# Altium integrated library AISkyLab-MaxII-EPM240_570.IntLib: 1 symbol
Pins are listed as number, name and electrical type; pins without a type are passive.

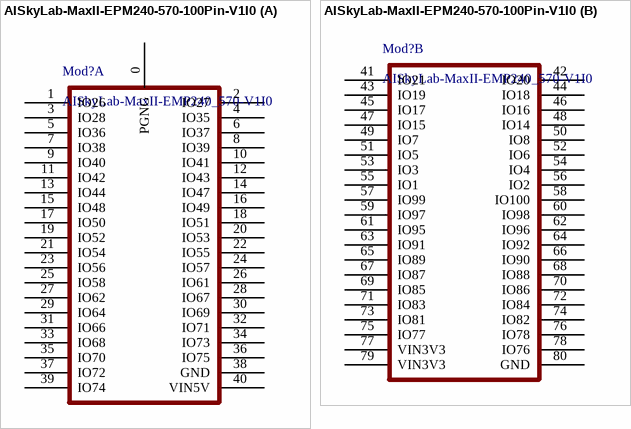
[diagram p0: symbol AISkyLab-MaxII-EPM240-570-100Pin-V1I0]

## AISkyLab-MaxII-EPM240-570-100Pin-V1I0
designator Mod?, comment AISkyLab-MaxII-EMP240_570-V1I0
AISkyLab MaxII 核心板
footprint EPM240_570_Mini_V1I0 (EPM240_570核心板模块)
part A pins: 0 PGNG, 1 IO26, 2 IO27, 3 IO28, 4 IO35, 5 IO36, 6 IO37, 7 IO38, 8 IO39, 9 IO40, 10 IO41, 11 IO42, 12 IO43, 13 IO44, 14 IO47, 15 IO48, 16 IO49, 17 IO50, 18 IO51, 19 IO52, 20 IO53, 21 IO54, 22 IO55, 23 IO56, 24 IO57, 25 IO58, 26 IO61, 27 IO62, 28 IO67, 29 IO64, 30 IO69, 31 IO66, 32 IO71, 33 IO68, 34 IO73, 35 IO70, 36 IO75, 37 IO72, 38 GND, 39 IO74, 40 VIN5V
part B pins: 41 IO21, 42 IO20, 43 IO19, 44 IO18, 45 IO17, 46 IO16, 47 IO15, 48 IO14, 49 IO7, 50 IO8, 51 IO5, 52 IO6, 53 IO3, 54 IO4, 55 IO1, 56 IO2, 57 IO99, 58 IO100, 59 IO97, 60 IO98, 61 IO95, 62 IO96, 63 IO91, 64 IO92, 65 IO89, 66 IO90, 67 IO87, 68 IO88, 69 IO85, 70 IO86, 71 IO83, 72 IO84, 73 IO81, 74 IO82, 75 IO77, 76 IO78, 77 VIN3V3, 78 IO76, 79 VIN3V3, 80 GND